# Altium footprint library PBD2-6.PcbLib: 1 footprints
Each footprint in its own frame and in the unit in brackets; x right, y up, seen from the top. Pads: shape width x height; smd on the part's side, far side on the other; paste and mask are expansions set on the pad; w line width, h text height; cw(c..) or ccw(c..) is an arc to the next point about the centre after c.
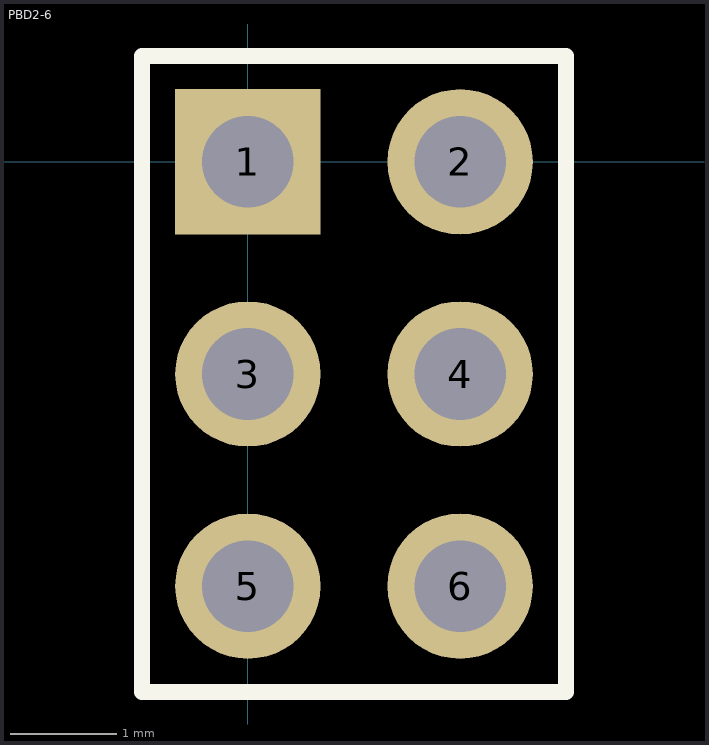
[diagram p0: the footprint, top view; thin cyan lines are the x and y axes]

## PBD2-6 [mil]
pads (6):
  rect 54x54 hole 34: 1(0,0)
  round 54 hole 34: 2(78.74,0) 3(0,-78.74) 4(78.74,-78.74) 5(0,-157.48) 6(78.74,-157.48)
Top Overlay:
  lines w5.91: -39.37,-196.85 -39.37,39.37 118.11,39.37 118.11,-196.85 -39.37,-196.85
Mechanical 15:
  text "'.Designator'" at -5.26,31.5 h78.74